# Altium footprint library BOSCH LGA-28 5.2X3.8MM.PCBLIB: 1 footprints
Each footprint in its own frame and in the unit in brackets; x right, y up, seen from the top. Pads: shape width x height; smd on the part's side, far side on the other; paste and mask are expansions set on the pad; w line width, h text height; cw(c..) or ccw(c..) is an arc to the next point about the centre after c.
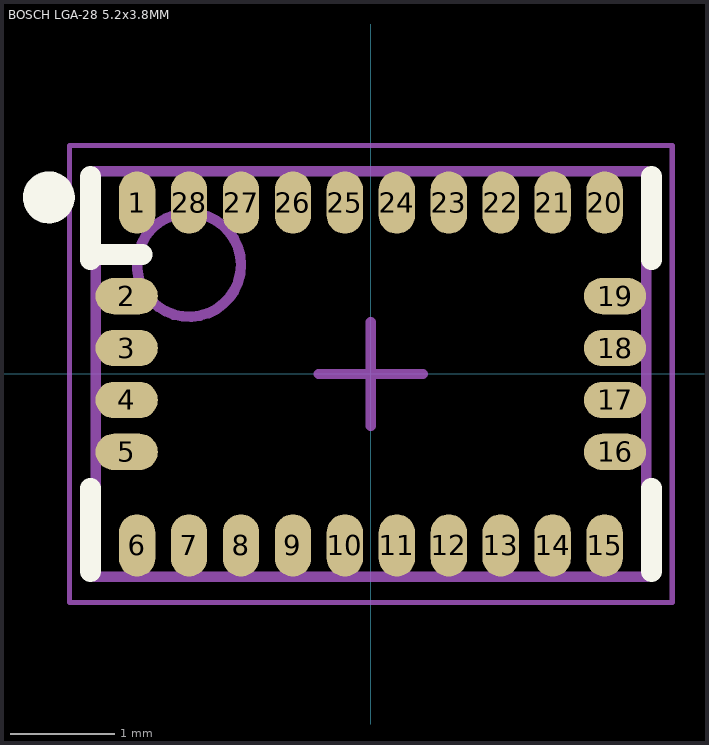
[diagram p0: the footprint, top view; thin cyan lines are the x and y axes]

## BOSCH LGA-28 5.2x3.8MM [mm] "LGA, 28-Leads, Body 5.20x3.80mm, Pitch 0.50mm, IPC Medium Density"
height 1.18
pads (28):
  oval 0.35x0.6 smd: 1(-2.25,1.65) 6(-2.25,-1.65) 7(-1.75,-1.65) 8(-1.25,-1.65) 9(-0.75,-1.65) 10(-0.25,-1.65) 11(0.25,-1.65) 12(0.75,-1.65) 13(1.25,-1.65) 14(1.75,-1.65) 15(2.25,-1.65) 20(2.25,1.65) 21(1.75,1.65) 22(1.25,1.65) 23(0.75,1.65) 24(0.25,1.65) 25(-0.25,1.65) 26(-0.75,1.65) 27(-1.25,1.65) 28(-1.75,1.65)
  oval 0.6x0.35 smd: 2(-2.35,0.75) 3(-2.35,0.25) 4(-2.35,-0.25) 5(-2.35,-0.75) 16(2.35,-0.75) 17(2.35,-0.25) 18(2.35,0.25) 19(2.35,0.75)
Top Overlay:
  circle w0.25: c-3.1,1.7 r0.125
  lines w0.2: -2.7,-1.9 -2.7,-1.1 ; -2.7,1.1 -2.7,1.9 ; -2.7,1.15 -2.2,1.15 ; 2.7,-1.9 2.7,-1.1 ; 2.7,1.1 2.7,1.9
Mechanical 13:
  circle w0.1: c-1.75,1.05 r0.5
  lines w0.1: -2.65,-1.95 2.65,-1.95 2.65,1.95 -2.65,1.95 -2.65,-1.95
Mechanical 15:
  lines w0.05: -2.9,-2.2 2.9,-2.2 2.9,2.2 -2.9,2.2 -2.9,-2.2
  lines w0.1: -0.5,0 0.5,0 ; 0,-0.5 0,0.5
3D body: height 1.18, standoff 0.13, extent -2.65,-1.95 2.65,1.95